# Altium footprint library Mini_sys.PcbLib: 10 footprints
Each footprint in its own frame and in the unit in brackets; x right, y up, seen from the top. Pads: shape width x height; smd on the part's side, far side on the other; paste and mask are expansions set on the pad; w line width, h text height; cw(c..) or ccw(c..) is an arc to the next point about the centre after c.
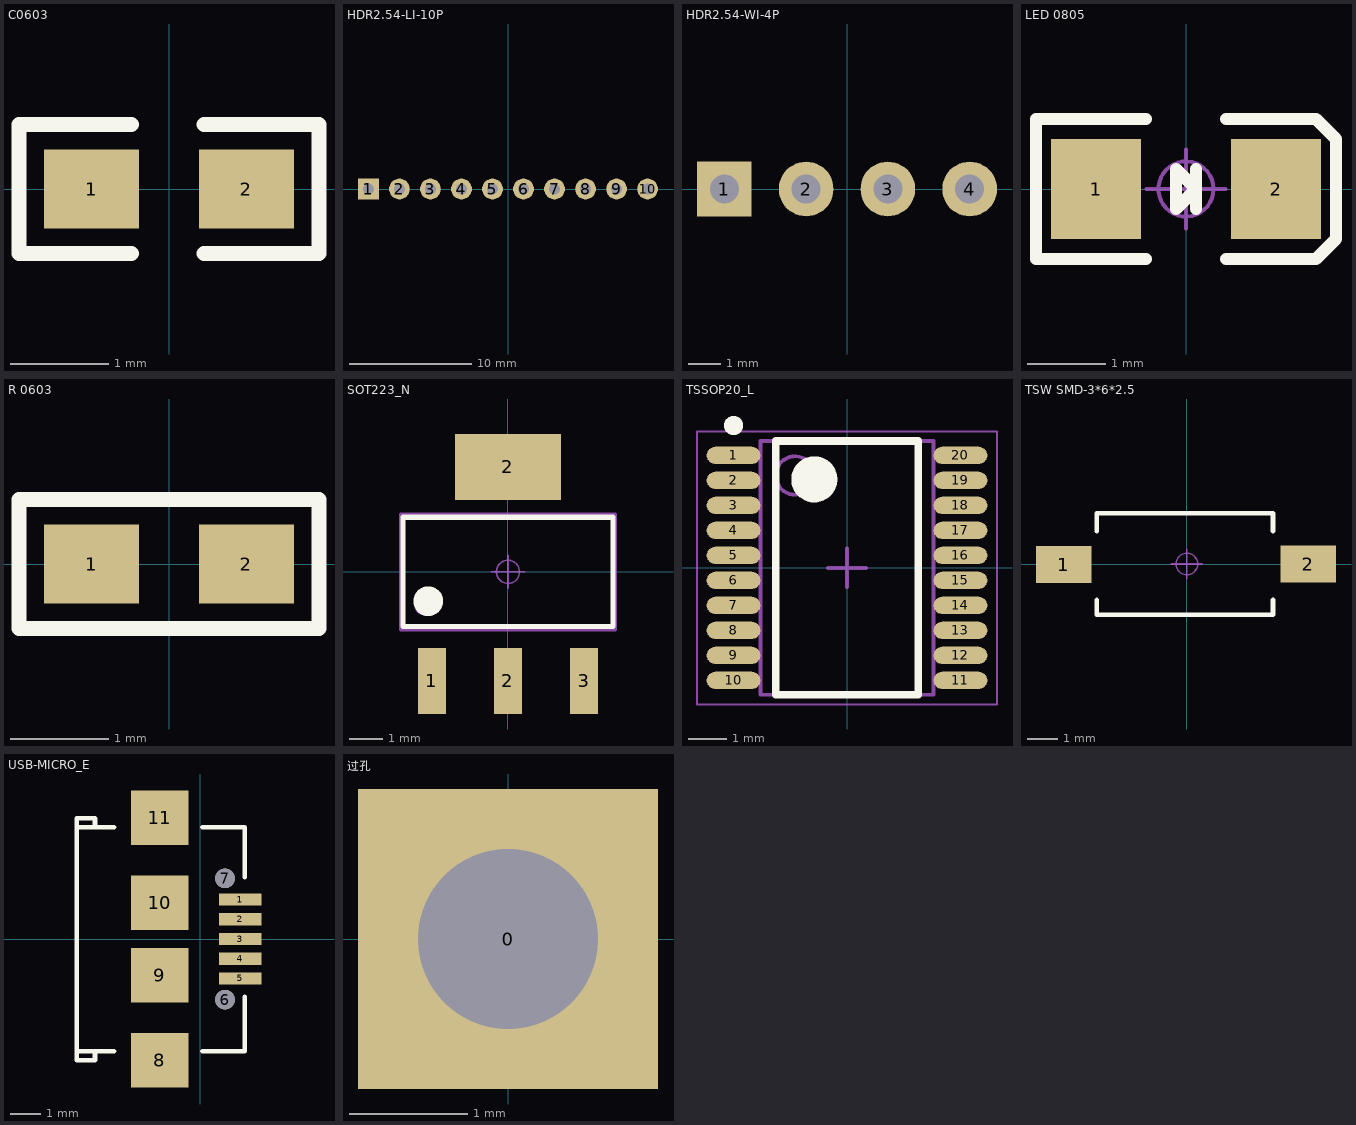
[diagram p0: the footprints below, top view; thin cyan lines are the x and y axes]

## C0603 [mm]
pads (2):
  rect 0.965x0.8 smd: 1(-0.787,0) 2(0.788,0)
Top Overlay:
  lines w0.152: -0.381,-0.657 -1.526,-0.657 -1.526,0.657 -0.381,0.657 ; 0.356,-0.657 1.526,-0.657 1.526,0.657 0.356,0.657
3D body "0603 SMD Capacitor.STEP": height 0.3, standoff 0, extent -0.825,-0.394 0.775,0.406

## HDR2.54-LI-10P [mm] "排针，17脚"
pads (10):
  rect 1.7x1.7 hole 0.9: 1(-11.43,0)
  round 1.7 hole 0.9: 2(-8.89,0) 3(-6.35,0) 4(-3.81,0) 5(-1.27,0) 6(1.27,0) 7(3.81,0) 8(6.35,0) 9(8.89,0) 10(11.43,0)
3D body "HDR2.54-1P.STEP": height 8.5, standoff -3, extent 7.62,-1.27 10.16,1.27
3D body "HDR2.54-1P.STEP": height 8.5, standoff -3, extent 10.16,-1.27 12.7,1.27
3D body "HDR2.54-1P.STEP": height 8.5, standoff -3, extent 5.08,-1.27 7.62,1.27
3D body "HDR2.54-1P.STEP": height 8.5, standoff -3, extent 0,-1.27 2.54,1.27
3D body "HDR2.54-1P.STEP": height 8.5, standoff -3, extent 2.54,-1.27 5.08,1.27
3D body "HDR2.54-1P.STEP": height 8.5, standoff -3, extent -5.08,-1.27 -2.54,1.27
3D body "HDR2.54-1P.STEP": height 8.5, standoff -3, extent -2.54,-1.27 0,1.27
3D body "HDR2.54-1P.STEP": height 8.5, standoff -3, extent -7.62,-1.27 -5.08,1.27
3D body "HDR2.54-1P.STEP": height 8.5, standoff -3, extent -12.7,-1.27 -10.16,1.27
3D body "HDR2.54-1P.STEP": height 8.5, standoff -3, extent -10.16,-1.27 -7.62,1.27

## HDR2.54-WI-4P [mm] "弯脚排针，4脚"
pads (4):
  rect 1.7x1.7 hole 0.9: 1(-3.81,0)
  round 1.7 hole 0.9: 2(-1.27,0) 3(1.27,0) 4(3.81,0)
3D body "HDR2.54-1P_H.STEP": height 4.85, standoff -3, extent 2.54,-1.27 5.08,7.77
3D body "HDR2.54-1P_H.STEP": height 4.85, standoff -3, extent 0,-1.27 2.54,7.77
3D body "HDR2.54-1P_H.STEP": height 4.85, standoff -3, extent -2.54,-1.27 0,7.77
3D body "HDR2.54-1P_H.STEP": height 4.85, standoff -3, extent -5.08,-1.27 -2.54,7.77

## LED 0805 [mil]
pads (2):
  rect 45x50 smd: 1(-45,0) 2(45,0)
Top Overlay:
  lines w6: -20,-35 -75,-35 -75,35 -20,35 ; 5,-10 5,10 ; 20,-35 65,-35 75,-25 75,25 65,35 20,35 ; -5,-10 -5,10 5,0 -5,-10
Mechanical 15:
  circle w1.97: c0,0 r13.78
  lines w1.97: -19.68,0 19.68,0 ; 0,-19.68 0,19.68
3D body "LED 0805玻璃罩.STEP": height 31.69, standoff 12.01, extent -29.49,-24.65 29.49,24.65
3D body "LED 0805-G.STEP": height 26.33, standoff -0.16, extent -39.37,-24.65 39.37,24.65

## R 0603 [mm] "贴片带丝印"
height 0.6
pads (2):
  rect 0.965x0.8 smd: 1(-0.787,0) 2(0.788,0)
Top Overlay:
  lines w0.152: -1.526,-0.657 -1.526,0.657 0.356,0.657 1.526,0.657 1.526,-0.657 0.356,-0.657 -1.526,-0.657
3D body "0603 SMD Capacitor.STEP": height 0.3, standoff 0, extent -0.825,-0.394 0.775,0.406

## SOT223_N [mm] "6.4x7x1.6mm(长宽高)"
height 1.7
pads (4):
  rect 0.85x2 smd: 1(-2.3,-3.302) 2(0,-3.302) 3(2.3,-3.302)
  rect 3.2x2 smd: 2(0,3.175)
Top Overlay:
  circle w0.5: c-2.413,-0.889 r0.2
  lines w0.152: -3.175,-1.651 -3.175,1.651 3.175,1.651 3.175,-1.651 -3.175,-1.651
Mechanical 13:
  circle w0.1: c-2.536,-1.016 r0.25
  lines w0.1: -3.25,-1.75 3.25,-1.75 3.25,1.75 -3.25,1.75 -3.25,-1.75
Mechanical 15:
  circle w0.05: c0,0 r0.35
  lines w0.05: -0.5,0 0.5,0 ; 0,-0.5 0,0.5
3D body "SOT223.STEP": height 1.65, standoff -0.02, extent -3.25,-3.508 3.25,3.508

## TSSOP20_L [mm] "TSOP, 20-Leads, Body 6.50x4.40mm, Pitch 0.65mm, IPC Medium Density"
height 1.2
pads (20):
  oval 1.4x0.45 smd: 1(-2.95,2.925) 2(-2.95,2.275) 3(-2.95,1.625) 4(-2.95,0.975) 5(-2.95,0.325) 6(-2.95,-0.325) 7(-2.95,-0.975) 8(-2.95,-1.625) 9(-2.95,-2.275) 10(-2.95,-2.925) 11(2.95,-2.925) 12(2.95,-2.275) 13(2.95,-1.625) 14(2.95,-0.975) 15(2.95,-0.325) 16(2.95,0.325) 17(2.95,0.975) 18(2.95,1.625) 19(2.95,2.275) 20(2.95,2.925)
Top Overlay:
  circle w0.25: c-2.95,3.7 r0.125
  circle w0.6: c-0.85,2.3 r0.3
  lines w0.2: -1.85,-3.3 -1.85,3.3 1.85,3.3 1.85,-3.3 -1.85,-3.3
Mechanical 13:
  circle w0.1: c-1.35,2.4 r0.5
  lines w0.1: -2.25,-3.3 -2.25,3.3 2.25,3.3 2.25,-3.3 -2.25,-3.3
Mechanical 15:
  lines w0.05: -3.9,-3.55 -3.9,3.55 3.9,3.55 3.9,-3.55 -3.9,-3.55
  lines w0.1: -0.5,0 0.5,0 ; 0,-0.5 0,0.5
3D body "TSOP65P640X120-20N.step": height 1.2, standoff 0, extent -3.2,-3.3 3.2,3.3

## TSW SMD-3*6*2.5 [mm] "3*6*2.5mm"
pads (2):
  rect 1.8x1.2 smd: 1(-3.996,-0.02) 2(3.937,0)
Top Overlay:
  lines w0.152: -2.921,-1.168 -2.921,-1.651 2.794,-1.651 2.794,-1.168 ; -2.921,1.067 -2.921,1.651 2.794,1.651 2.794,1.067
Mechanical 15:
  circle w0.05: c0,0 r0.35
  lines w0.05: -0.5,0 0.5,0 ; 0,-0.5 0,0.5
3D body "TSW SMD-3x6x2.5.STEP": height 2.59, standoff -0.03, extent -4,-1.75 4,1.75

## USB-MICRO_E [mm]
pads (11):
  rect 1.4x0.4 smd: 1(1.325,1.3) 2(1.325,0.65) 3(1.325,0) 4(1.325,-0.65) 5(1.325,-1.3)
  round 0.65 hole 0.65 unplated: 6(0.825,-2) 7(0.825,2)
  rect 1.9x1.8 smd: 8(-1.325,-4) 9(-1.325,-1.2) 10(-1.325,1.2) 11(-1.325,4)
Top Overlay:
  lines w0.152: -3.464,-3.717 -3.464,-3.996 -4.073,-3.996 -4.073,-3.708 ; -3.464,3.7 -3.464,3.979 -4.073,3.979 -4.073,3.692 ; -2.841,-3.708 -4.073,-3.708 ; -2.841,3.692 -4.073,3.692 ; 0.08,-3.708 1.477,-3.708 1.477,-2.294 ; 0.08,3.692 1.477,3.692 1.477,2.032 ; 1.475,-2.294 1.475,-1.905 ; -4.073,-3.708 -4.073,3.692
3D body "USB micro_E.STEP": height 2.8, standoff -0.55, extent -4.209,-4.001 1.866,4.001

## 过孔 [mil]
pads (1):
  rect 100x100 hole 60: 0(0,0)